# EAGLE library part SGM3005 (library ds_ic_peripherals)
Ultra Low ON-Resistance, Low Voltage, Dual, SPDT Analog Switch
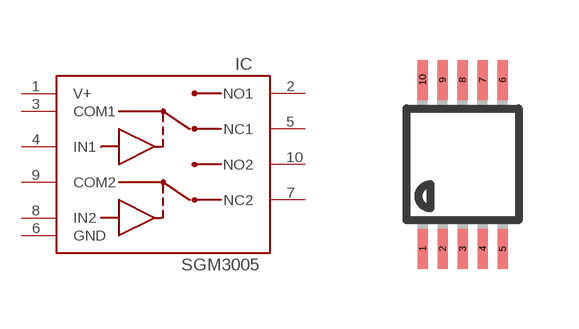
[diagram p28: symbol with the pads of MSOP10; footprint MSOP10]

Designator prefix IC

## SGM3005  [MSOP10]
1  V+
2  NO1
3  COM1
4  IN1
5  NC1
6  GND
7  NC2
8  IN2
9  COM2
10  NO2

## Footprint MSOP10 (pad centres in mm)
10-Lead Mini Small Outline Package [MSOP] (RM-10) Source: http://www.analog.com/UploadedFiles/Data_Sheets/35641221898805SSM2167_b.pdf COMPLIANT TO JEDEC STANDARDS MO-187BA
smd 0.25 x 1: 1 -1,-2.113; 2 -0.5,-2.113; 3 0,-2.113; 4 0.5,-2.113; 5 1,-2.113; 6 1,2.113; 7 0.5,2.113; 8 0,2.113; 9 -0.5,2.113; 10 -1,2.113